# Altium schematic symbol library screw terminal.SchLib: 1 symbol
Pins are listed as number, name and electrical type; pins without a type are passive.

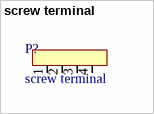
[diagram p0: symbol screw terminal]

## screw terminal
designator P?
footprint screw library
pins: 1, 2, 3, 4